# EAGLE library part TPS61023 (library BW-Active)
Low voltage boost converter with pass-through
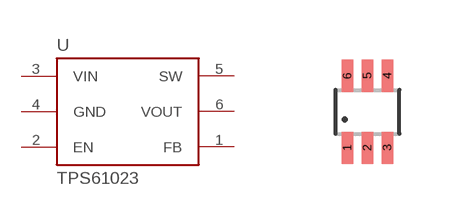
[diagram p38: symbol with the pads of SOT563; footprint SOT563]

Designator prefix U

## TPS61023  [SOT563]
1  FB
2  EN
3  VIN
4  GND
5  SW
6  VOUT

## Footprint SOT563 (pad centres in mm)
SOT-563 Source: www.centralsemi.com ..SOT-563PD.pdf
smd 0.3 x 0.8: 1 -0.5,-0.9; 2 0,-0.9; 3 0.5,-0.9; 4 0.5,0.9; 5 0,0.9; 6 -0.5,0.9